# Altium schematic symbol library 3.2 - NXP Cortex-M4系列单片机.SchLib: 3 symbols
Pins are listed as number, name and electrical type; pins without a type are passive.

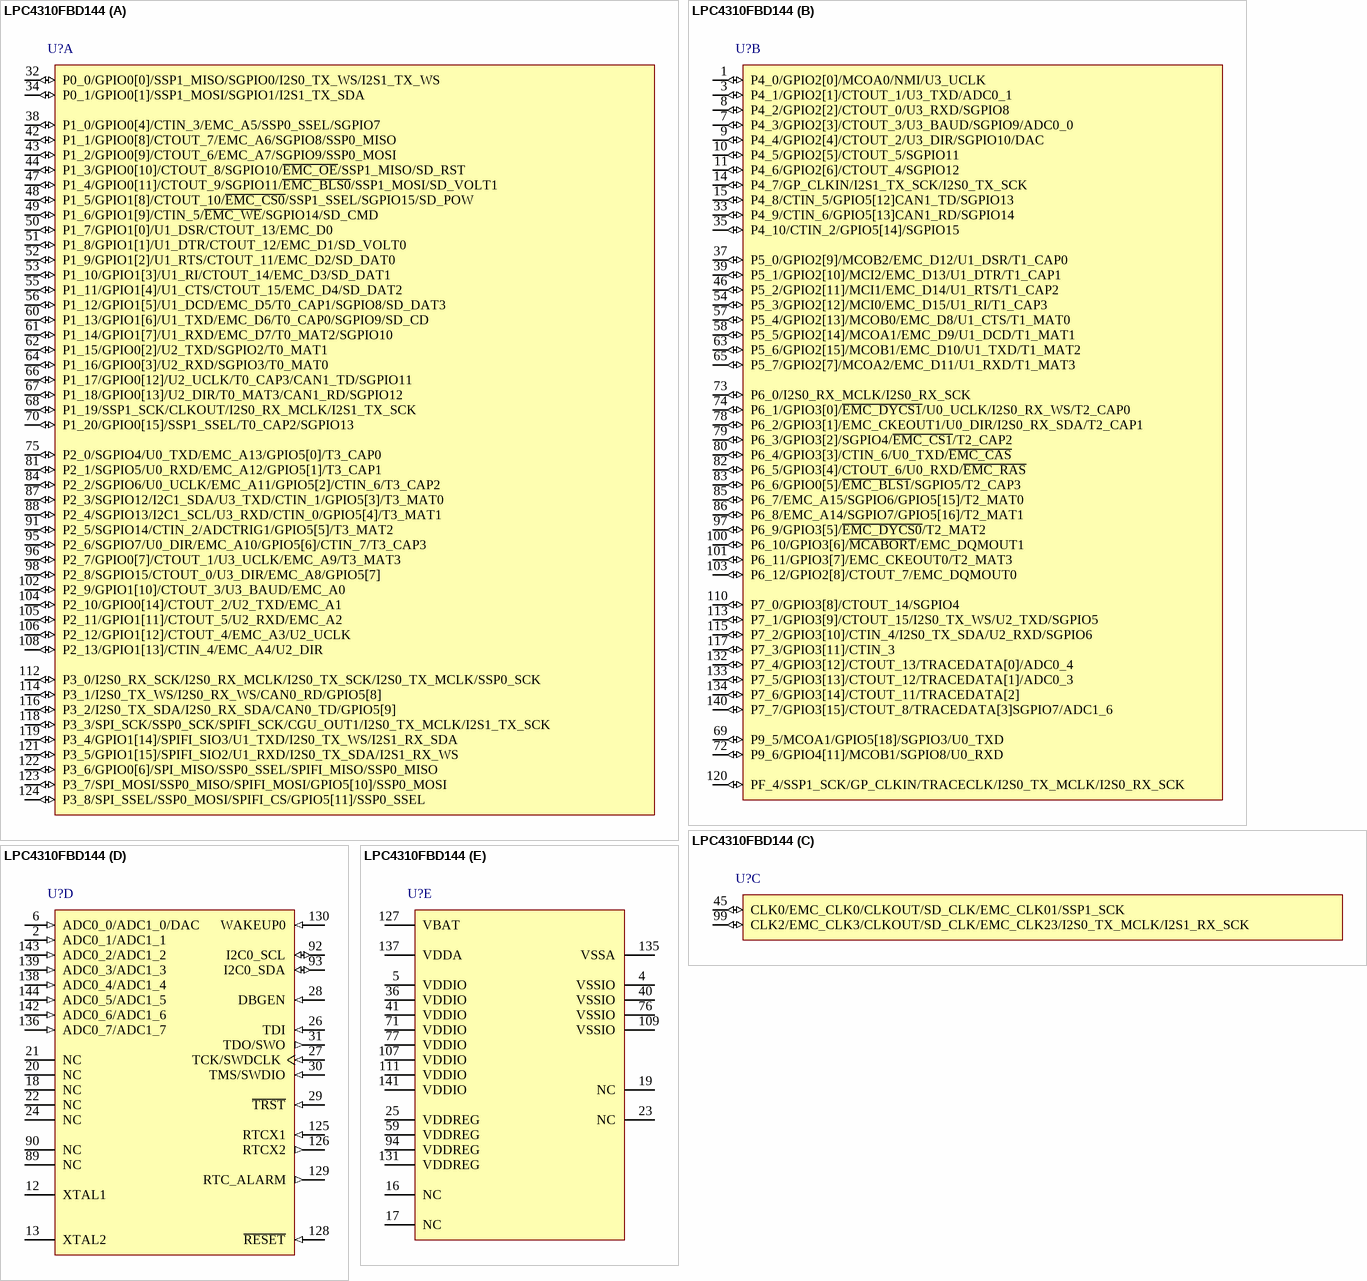
[diagram p0: symbol LPC4310FBD144]

## LPC4310FBD144
designator U?
32-bit ARM Cortex-M4 MCU, 168 kB SRAM, CAN, AES, SPIFI, SGPIO, SCT, 144-Pin LQFP; 封装库来自淘宝卖家 ID：黄晶宝石: 其他店铺购入均为盗版封装库; 联系卖家 免费查找封装: 唯一出售店铺网址https://shop463601444.taobao.com
footprint LQFP144_M (封装库来自淘宝 ID：黄晶宝石 Thin QFP, 144-Leads, Body 20x20mm, Pitch 0.5mm, IPC Low Density)
part A pins: 32 P0_0/GPIO0[0]/SSP1_MISO/SGPIO0/I2S0_TX_WS/I2S1_TX_WS (io), 34 P0_1/GPIO0[1]/SSP1_MOSI/SGPIO1/I2S1_TX_SDA (io), 38 P1_0/GPIO0[4]/CTIN_3/EMC_A5/SSP0_SSEL/SGPIO7 (io), 42 P1_1/GPIO0[8]/CTOUT_7/EMC_A6/SGPIO8/SSP0_MISO (io), 43 P1_2/GPIO0[9]/CTOUT_6/EMC_A7/SGPIO9/SSP0_MOSI (io), 44 P1_3/GPIO0[10]/CTOUT_8/SGPIO10/~{EMC_OE}/SSP1_MISO/SD_RST (io), 47 P1_4/GPIO0[11]/CTOUT_9/SGPIO11/~{EMC_BLS0}/SSP1_MOSI/SD_VOLT1 (io), 48 P1_5/GPIO1[8]/CTOUT_10/~{EMC_CS0}/SSP1_SSEL/SGPIO15/SD_POW (io), 49 P1_6/GPIO1[9]/CTIN_5/~{EMC_WE}/SGPIO14/SD_CMD (io), 50 P1_7/GPIO1[0]/U1_DSR/CTOUT_13/EMC_D0 (io), 51 P1_8/GPIO1[1]/U1_DTR/CTOUT_12/EMC_D1/SD_VOLT0 (io), 52 P1_9/GPIO1[2]/U1_RTS/CTOUT_11/EMC_D2/SD_DAT0 (io), 53 P1_10/GPIO1[3]/U1_RI/CTOUT_14/EMC_D3/SD_DAT1 (io), 55 P1_11/GPIO1[4]/U1_CTS/CTOUT_15/EMC_D4/SD_DAT2 (io), 56 P1_12/GPIO1[5]/U1_DCD/EMC_D5/T0_CAP1/SGPIO8/SD_DAT3 (io), 60 P1_13/GPIO1[6]/U1_TXD/EMC_D6/T0_CAP0/SGPIO9/SD_CD (io), 61 P1_14/GPIO1[7]/U1_RXD/EMC_D7/T0_MAT2/SGPIO10 (io), 62 P1_15/GPIO0[2]/U2_TXD/SGPIO2/T0_MAT1 (io), 64 P1_16/GPIO0[3]/U2_RXD/SGPIO3/T0_MAT0 (io), 66 P1_17/GPIO0[12]/U2_UCLK/T0_CAP3/CAN1_TD/SGPIO11 (io), 67 P1_18/GPIO0[13]/U2_DIR/T0_MAT3/CAN1_RD/SGPIO12 (io), 68 P1_19/SSP1_SCK/CLKOUT/I2S0_RX_MCLK/I2S1_TX_SCK (io), 70 P1_20/GPIO0[15]/SSP1_SSEL/T0_CAP2/SGPIO13 (io), 75 P2_0/SGPIO4/U0_TXD/EMC_A13/GPIO5[0]/T3_CAP0 (io), 81 P2_1/SGPIO5/U0_RXD/EMC_A12/GPIO5[1]/T3_CAP1 (io), 84 P2_2/SGPIO6/U0_UCLK/EMC_A11/GPIO5[2]/CTIN_6/T3_CAP2 (io), 87 P2_3/SGPIO12/I2C1_SDA/U3_TXD/CTIN_1/GPIO5[3]/T3_MAT0 (io), 88 P2_4/SGPIO13/I2C1_SCL/U3_RXD/CTIN_0/GPIO5[4]/T3_MAT1 (io), 91 P2_5/SGPIO14/CTIN_2/ADCTRIG1/GPIO5[5]/T3_MAT2 (io), 95 P2_6/SGPIO7/U0_DIR/EMC_A10/GPIO5[6]/CTIN_7/T3_CAP3 (io), 96 P2_7/GPIO0[7]/CTOUT_1/U3_UCLK/EMC_A9/T3_MAT3 (io), 98 P2_8/SGPIO15/CTOUT_0/U3_DIR/EMC_A8/GPIO5[7] (io), 102 P2_9/GPIO1[10]/CTOUT_3/U3_BAUD/EMC_A0 (io), 104 P2_10/GPIO0[14]/CTOUT_2/U2_TXD/EMC_A1 (io), 105 P2_11/GPIO1[11]/CTOUT_5/U2_RXD/EMC_A2 (io), 106 P2_12/GPIO1[12]/CTOUT_4/EMC_A3/U2_UCLK (io), 108 P2_13/GPIO1[13]/CTIN_4/EMC_A4/U2_DIR (io), 112 P3_0/I2S0_RX_SCK/I2S0_RX_MCLK/I2S0_TX_SCK/I2S0_TX_MCLK/SSP0_SCK (io), 114 P3_1/I2S0_TX_WS/I2S0_RX_WS/CAN0_RD/GPIO5[8] (io), 116 P3_2/I2S0_TX_SDA/I2S0_RX_SDA/CAN0_TD/GPIO5[9] (io), 118 P3_3/SPI_SCK/SSP0_SCK/SPIFI_SCK/CGU_OUT1/I2S0_TX_MCLK/I2S1_TX_SCK (io), 119 P3_4/GPIO1[14]/SPIFI_SIO3/U1_TXD/I2S0_TX_WS/I2S1_RX_SDA (io), 121 P3_5/GPIO1[15]/SPIFI_SIO2/U1_RXD/I2S0_TX_SDA/I2S1_RX_WS (io), 122 P3_6/GPIO0[6]/SPI_MISO/SSP0_SSEL/SPIFI_MISO/SSP0_MISO (io), 123 P3_7/SPI_MOSI/SSP0_MISO/SPIFI_MOSI/GPIO5[10]/SSP0_MOSI (io), 124 P3_8/SPI_SSEL/SSP0_MOSI/SPIFI_CS/GPIO5[11]/SSP0_SSEL (io)
part B pins: 1 P4_0/GPIO2[0]/MCOA0/NMI/U3_UCLK (io), 3 P4_1/GPIO2[1]/CTOUT_1/U3_TXD/ADC0_1 (io), 7 P4_3/GPIO2[3]/CTOUT_3/U3_BAUD/SGPIO9/ADC0_0 (io), 8 P4_2/GPIO2[2]/CTOUT_0/U3_RXD/SGPIO8 (io), 9 P4_4/GPIO2[4]/CTOUT_2/U3_DIR/SGPIO10/DAC (io), 10 P4_5/GPIO2[5]/CTOUT_5/SGPIO11 (io), 11 P4_6/GPIO2[6]/CTOUT_4/SGPIO12 (io), 14 P4_7/GP_CLKIN/I2S1_TX_SCK/I2S0_TX_SCK (io), 15 P4_8/CTIN_5/GPIO5[12]CAN1_TD/SGPIO13 (io), 33 P4_9/CTIN_6/GPIO5[13]CAN1_RD/SGPIO14 (io), 35 P4_10/CTIN_2/GPIO5[14]/SGPIO15 (io), 37 P5_0/GPIO2[9]/MCOB2/EMC_D12/U1_DSR/T1_CAP0 (io), 39 P5_1/GPIO2[10]/MCI2/EMC_D13/U1_DTR/T1_CAP1 (io), 46 P5_2/GPIO2[11]/MCI1/EMC_D14/U1_RTS/T1_CAP2 (io), 54 P5_3/GPIO2[12]/MCI0/EMC_D15/U1_RI/T1_CAP3 (io), 57 P5_4/GPIO2[13]/MCOB0/EMC_D8/U1_CTS/T1_MAT0 (io), 58 P5_5/GPIO2[14]/MCOA1/EMC_D9/U1_DCD/T1_MAT1 (io), 63 P5_6/GPIO2[15]/MCOB1/EMC_D10/U1_TXD/T1_MAT2 (io), 65 P5_7/GPIO2[7]/MCOA2/EMC_D11/U1_RXD/T1_MAT3 (io), 69 P9_5/MCOA1/GPIO5[18]/SGPIO3/U0_TXD (io), 72 P9_6/GPIO4[11]/MCOB1/SGPIO8/U0_RXD (io), 73 P6_0/I2S0_RX_MCLK/I2S0_RX_SCK (io), 74 P6_1/GPIO3[0]/~{EMC_DYCS1}/U0_UCLK/I2S0_RX_WS/T2_CAP0 (io), 78 P6_2/GPIO3[1]/EMC_CKEOUT1/U0_DIR/I2S0_RX_SDA/T2_CAP1 (io), 79 P6_3/GPIO3[2]/SGPIO4/~{EMC_CS1}/T2_CAP2 (io), 80 P6_4/GPIO3[3]/CTIN_6/U0_TXD/~{EMC_CAS} (io), 82 P6_5/GPIO3[4]/CTOUT_6/U0_RXD/~{EMC_RAS} (io), 83 P6_6/GPIO0[5]/~{EMC_BLS1}/SGPIO5/T2_CAP3 (io), 85 P6_7/EMC_A15/SGPIO6/GPIO5[15]/T2_MAT0 (io), 86 P6_8/EMC_A14/SGPIO7/GPIO5[16]/T2_MAT1 (io), 97 P6_9/GPIO3[5]/~{EMC_DYCS0}/T2_MAT2 (io), 100 P6_10/GPIO3[6]/~{MCABORT}/EMC_DQMOUT1 (io), 101 P6_11/GPIO3[7]/EMC_CKEOUT0/T2_MAT3 (io), 103 P6_12/GPIO2[8]/CTOUT_7/EMC_DQMOUT0 (io), 110 P7_0/GPIO3[8]/CTOUT_14/SGPIO4 (io), 113 P7_1/GPIO3[9]/CTOUT_15/I2S0_TX_WS/U2_TXD/SGPIO5 (io), 115 P7_2/GPIO3[10]/CTIN_4/I2S0_TX_SDA/U2_RXD/SGPIO6 (io), 117 P7_3/GPIO3[11]/CTIN_3 (io), 120 PF_4/SSP1_SCK/GP_CLKIN/TRACECLK/I2S0_TX_MCLK/I2S0_RX_SCK (io), 132 P7_4/GPIO3[12]/CTOUT_13/TRACEDATA[0]/ADC0_4 (io), 133 P7_5/GPIO3[13]/CTOUT_12/TRACEDATA[1]/ADC0_3 (io), 134 P7_6/GPIO3[14]/CTOUT_11/TRACEDATA[2] (io), 140 P7_7/GPIO3[15]/CTOUT_8/TRACEDATA[3]SGPIO7/ADC1_6 (io)
part C pins: 45 CLK0/EMC_CLK0/CLKOUT/SD_CLK/EMC_CLK01/SSP1_SCK (io), 99 CLK2/EMC_CLK3/CLKOUT/SD_CLK/EMC_CLK23/I2S0_TX_MCLK/I2S1_RX_SCK (io)
part D pins: 2 ADC0_1/ADC1_1 (in), 6 ADC0_0/ADC1_0/DAC (in), 12 XTAL1, 13 XTAL2, 18 NC, 20 NC, 21 NC, 22 NC, 24 NC, 26 TDI (in), 27 TCK/SWDCLK (in), 28 DBGEN (in), 29 ~{TRST} (in), 30 TMS/SWDIO (in), 31 TDO/SWO (out), 89 NC, 90 NC, 92 I2C0_SCL (io), 93 I2C0_SDA (io), 125 RTCX1 (in), 126 RTCX2 (out), 128 ~{RESET} (in), 129 RTC_ALARM (out), 130 WAKEUP0 (in), 136 ADC0_7/ADC1_7 (in), 138 ADC0_4/ADC1_4 (in), 139 ADC0_3/ADC1_3 (in), 142 ADC0_6/ADC1_6 (in), 143 ADC0_2/ADC1_2 (in), 144 ADC0_5/ADC1_5 (in)
part E pins: 4 VSSIO (power), 5 VDDIO (power), 16 NC, 17 NC, 19 NC, 23 NC, 25 VDDREG (power), 36 VDDIO (power), 40 VSSIO (power), 41 VDDIO (power), 59 VDDREG (power), 71 VDDIO (power), 76 VSSIO (power), 77 VDDIO (power), 94 VDDREG (power), 107 VDDIO (power), 109 VSSIO (power), 111 VDDIO (power), 127 VBAT (power), 131 VDDREG (power), 135 VSSA (power), 137 VDDA (power), 141 VDDIO (power)

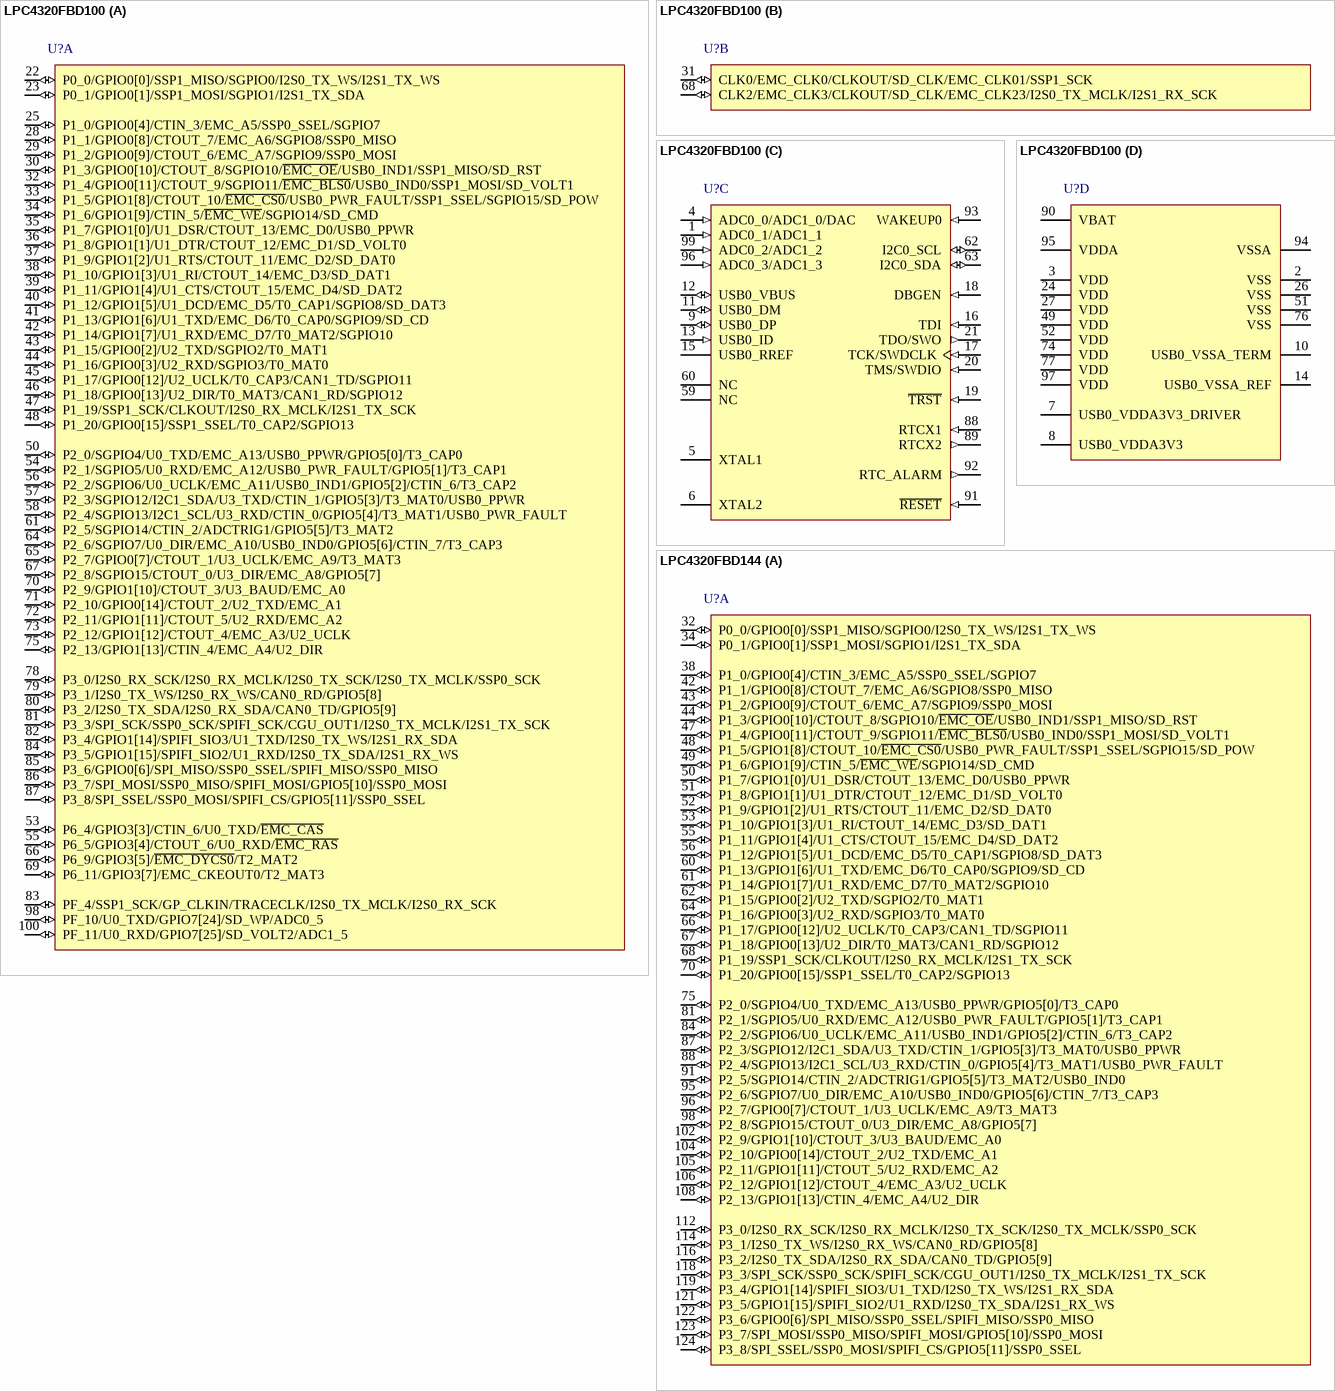
[diagram p1: symbols LPC4320FBD100 to LPC4320FBD144]

## LPC4320FBD100
designator U?
32-bit ARM Cortex-M4 MCU, 200 kB SRAM, HS USB with on-chip PHY, CAN, AES, SPIFI, SGPIO, SCT, 100-Pin LQFP; 封装库来自淘宝卖家 ID：黄晶宝石: 其他店铺购入均为盗版封装库; 联系卖家 免费查找封装: 唯一出售店铺网址https://shop463601444.taobao.com
footprint LQFP100_M (封装库来自淘宝 ID：黄晶宝石 Thin QFP, 100-Leads, Body 14x14mm, Pitch 0.5mm, IPC Low Density)
part A pins: 22 P0_0/GPIO0[0]/SSP1_MISO/SGPIO0/I2S0_TX_WS/I2S1_TX_WS (io), 23 P0_1/GPIO0[1]/SSP1_MOSI/SGPIO1/I2S1_TX_SDA (io), 25 P1_0/GPIO0[4]/CTIN_3/EMC_A5/SSP0_SSEL/SGPIO7 (io), 28 P1_1/GPIO0[8]/CTOUT_7/EMC_A6/SGPIO8/SSP0_MISO (io), 29 P1_2/GPIO0[9]/CTOUT_6/EMC_A7/SGPIO9/SSP0_MOSI (io), 30 P1_3/GPIO0[10]/CTOUT_8/SGPIO10/~{EMC_OE}/USB0_IND1/SSP1_MISO/SD_RST (io), 32 P1_4/GPIO0[11]/CTOUT_9/SGPIO11/~{EMC_BLS0}/USB0_IND0/SSP1_MOSI/SD_VOLT1 (io), 33 P1_5/GPIO1[8]/CTOUT_10/~{EMC_CS0}/USB0_PWR_FAULT/SSP1_SSEL/SGPIO15/SD_POW (io), 34 P1_6/GPIO1[9]/CTIN_5/~{EMC_WE}/SGPIO14/SD_CMD (io), 35 P1_7/GPIO1[0]/U1_DSR/CTOUT_13/EMC_D0/USB0_PPWR (io), 36 P1_8/GPIO1[1]/U1_DTR/CTOUT_12/EMC_D1/SD_VOLT0 (io), 37 P1_9/GPIO1[2]/U1_RTS/CTOUT_11/EMC_D2/SD_DAT0 (io), 38 P1_10/GPIO1[3]/U1_RI/CTOUT_14/EMC_D3/SD_DAT1 (io), 39 P1_11/GPIO1[4]/U1_CTS/CTOUT_15/EMC_D4/SD_DAT2 (io), 40 P1_12/GPIO1[5]/U1_DCD/EMC_D5/T0_CAP1/SGPIO8/SD_DAT3 (io), 41 P1_13/GPIO1[6]/U1_TXD/EMC_D6/T0_CAP0/SGPIO9/SD_CD (io), 42 P1_14/GPIO1[7]/U1_RXD/EMC_D7/T0_MAT2/SGPIO10 (io), 43 P1_15/GPIO0[2]/U2_TXD/SGPIO2/T0_MAT1 (io), 44 P1_16/GPIO0[3]/U2_RXD/SGPIO3/T0_MAT0 (io), 45 P1_17/GPIO0[12]/U2_UCLK/T0_CAP3/CAN1_TD/SGPIO11 (io), 46 P1_18/GPIO0[13]/U2_DIR/T0_MAT3/CAN1_RD/SGPIO12 (io), 47 P1_19/SSP1_SCK/CLKOUT/I2S0_RX_MCLK/I2S1_TX_SCK (io), 48 P1_20/GPIO0[15]/SSP1_SSEL/T0_CAP2/SGPIO13 (io), 50 P2_0/SGPIO4/U0_TXD/EMC_A13/USB0_PPWR/GPIO5[0]/T3_CAP0 (io), 53 P6_4/GPIO3[3]/CTIN_6/U0_TXD/~{EMC_CAS} (io), 54 P2_1/SGPIO5/U0_RXD/EMC_A12/USB0_PWR_FAULT/GPIO5[1]/T3_CAP1 (io), 55 P6_5/GPIO3[4]/CTOUT_6/U0_RXD/~{EMC_RAS} (io), 56 P2_2/SGPIO6/U0_UCLK/EMC_A11/USB0_IND1/GPIO5[2]/CTIN_6/T3_CAP2 (io), 57 P2_3/SGPIO12/I2C1_SDA/U3_TXD/CTIN_1/GPIO5[3]/T3_MAT0/USB0_PPWR (io), 58 P2_4/SGPIO13/I2C1_SCL/U3_RXD/CTIN_0/GPIO5[4]/T3_MAT1/USB0_PWR_FAULT (io), 61 P2_5/SGPIO14/CTIN_2/ADCTRIG1/GPIO5[5]/T3_MAT2 (io), 64 P2_6/SGPIO7/U0_DIR/EMC_A10/USB0_IND0/GPIO5[6]/CTIN_7/T3_CAP3 (io), 65 P2_7/GPIO0[7]/CTOUT_1/U3_UCLK/EMC_A9/T3_MAT3 (io), 66 P6_9/GPIO3[5]/~{EMC_DYCS0}/T2_MAT2 (io), 67 P2_8/SGPIO15/CTOUT_0/U3_DIR/EMC_A8/GPIO5[7] (io), 69 P6_11/GPIO3[7]/EMC_CKEOUT0/T2_MAT3 (io), 70 P2_9/GPIO1[10]/CTOUT_3/U3_BAUD/EMC_A0 (io), 71 P2_10/GPIO0[14]/CTOUT_2/U2_TXD/EMC_A1 (io), 72 P2_11/GPIO1[11]/CTOUT_5/U2_RXD/EMC_A2 (io), 73 P2_12/GPIO1[12]/CTOUT_4/EMC_A3/U2_UCLK (io), 75 P2_13/GPIO1[13]/CTIN_4/EMC_A4/U2_DIR (io), 78 P3_0/I2S0_RX_SCK/I2S0_RX_MCLK/I2S0_TX_SCK/I2S0_TX_MCLK/SSP0_SCK (io), 79 P3_1/I2S0_TX_WS/I2S0_RX_WS/CAN0_RD/GPIO5[8] (io), 80 P3_2/I2S0_TX_SDA/I2S0_RX_SDA/CAN0_TD/GPIO5[9] (io), 81 P3_3/SPI_SCK/SSP0_SCK/SPIFI_SCK/CGU_OUT1/I2S0_TX_MCLK/I2S1_TX_SCK (io), 82 P3_4/GPIO1[14]/SPIFI_SIO3/U1_TXD/I2S0_TX_WS/I2S1_RX_SDA (io), 83 PF_4/SSP1_SCK/GP_CLKIN/TRACECLK/I2S0_TX_MCLK/I2S0_RX_SCK (io), 84 P3_5/GPIO1[15]/SPIFI_SIO2/U1_RXD/I2S0_TX_SDA/I2S1_RX_WS (io), 85 P3_6/GPIO0[6]/SPI_MISO/SSP0_SSEL/SPIFI_MISO/SSP0_MISO (io), 86 P3_7/SPI_MOSI/SSP0_MISO/SPIFI_MOSI/GPIO5[10]/SSP0_MOSI (io), 87 P3_8/SPI_SSEL/SSP0_MOSI/SPIFI_CS/GPIO5[11]/SSP0_SSEL (io), 98 PF_10/U0_TXD/GPIO7[24]/SD_WP/ADC0_5 (io), 100 PF_11/U0_RXD/GPIO7[25]/SD_VOLT2/ADC1_5 (io)
part B pins: 31 CLK0/EMC_CLK0/CLKOUT/SD_CLK/EMC_CLK01/SSP1_SCK (io), 68 CLK2/EMC_CLK3/CLKOUT/SD_CLK/EMC_CLK23/I2S0_TX_MCLK/I2S1_RX_SCK (io)
part C pins: 1 ADC0_1/ADC1_1 (in), 4 ADC0_0/ADC1_0/DAC (in), 5 XTAL1, 6 XTAL2, 9 USB0_DP (io), 11 USB0_DM (io), 12 USB0_VBUS (io), 13 USB0_ID (in), 15 USB0_RREF, 16 TDI (in), 17 TCK/SWDCLK (in), 18 DBGEN (in), 19 ~{TRST} (in), 20 TMS/SWDIO (in), 21 TDO/SWO (out), 59 NC, 60 NC, 62 I2C0_SCL (io), 63 I2C0_SDA (io), 88 RTCX1 (in), 89 RTCX2 (out), 91 ~{RESET} (in), 92 RTC_ALARM (out), 93 WAKEUP0 (in), 96 ADC0_3/ADC1_3 (in), 99 ADC0_2/ADC1_2 (in)
part D pins: 2 VSS (power), 3 VDD (power), 7 USB0_VDDA3V3_DRIVER (power), 8 USB0_VDDA3V3 (power), 10 USB0_VSSA_TERM (power), 14 USB0_VSSA_REF (power), 24 VDD (power), 26 VSS (power), 27 VDD (power), 49 VDD (power), 51 VSS (power), 52 VDD (power), 74 VDD (power), 76 VSS (power), 77 VDD (power), 90 VBAT (power), 94 VSSA (power), 95 VDDA (power), 97 VDD (power)

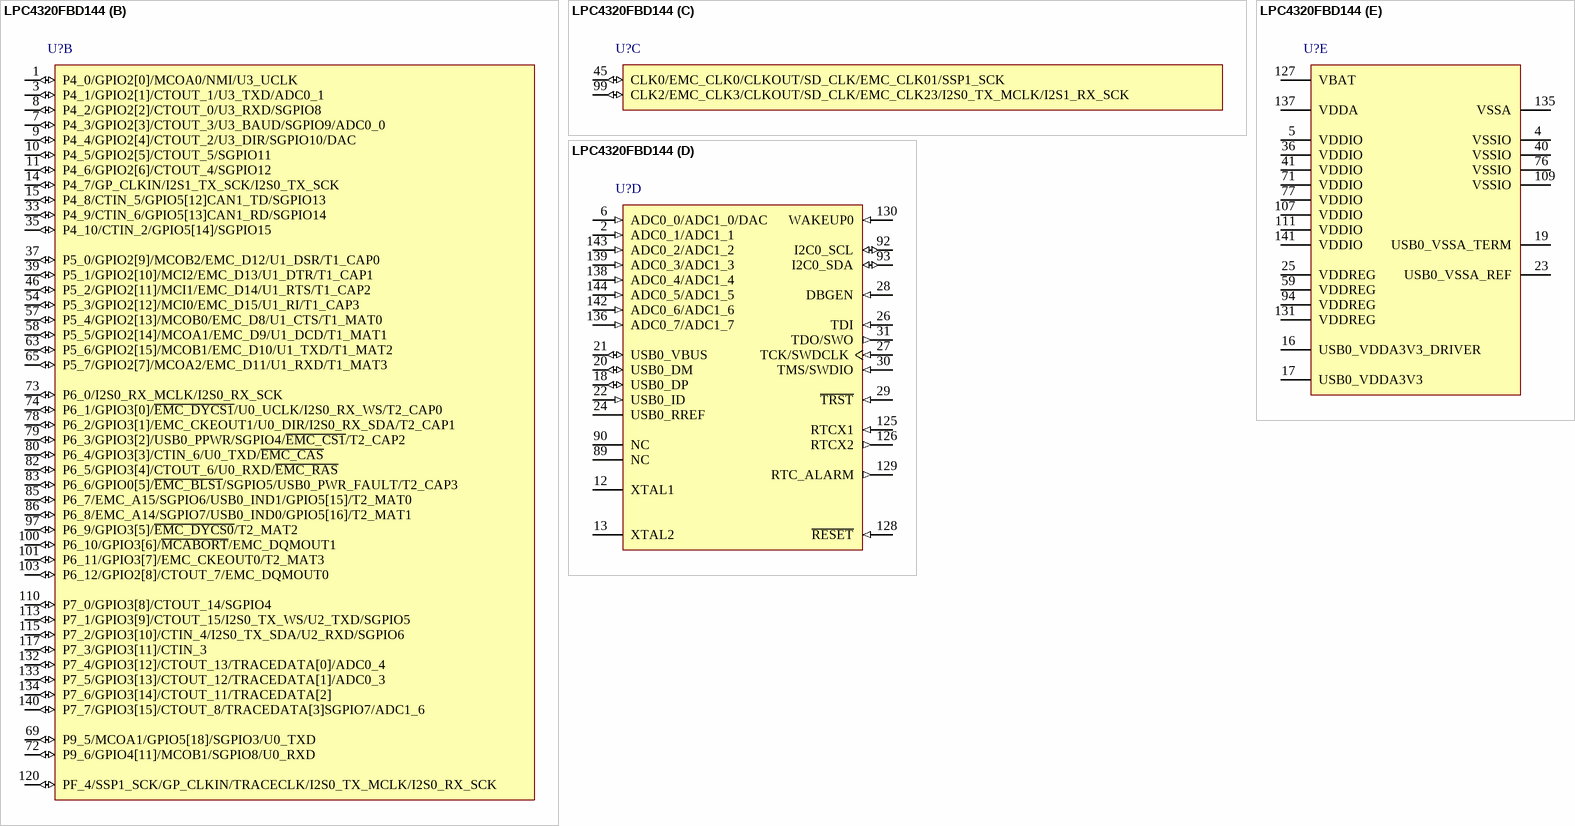
[diagram p2: symbol LPC4320FBD144]

## LPC4320FBD144
designator U?
32-bit ARM Cortex-M4 MCU, 200 kB SRAM, HS USB with on-chip PHY, CAN, AES, SPIFI, SGPIO, SCT, 144-Pin LQFP; 封装库来自淘宝卖家 ID：黄晶宝石: 其他店铺购入均为盗版封装库; 联系卖家 免费查找封装: 唯一出售店铺网址https://shop463601444.taobao.com
footprint LQFP144_M (封装库来自淘宝 ID：黄晶宝石 Thin QFP, 144-Leads, Body 20x20mm, Pitch 0.5mm, IPC Low Density)
part A pins: 32 P0_0/GPIO0[0]/SSP1_MISO/SGPIO0/I2S0_TX_WS/I2S1_TX_WS (io), 34 P0_1/GPIO0[1]/SSP1_MOSI/SGPIO1/I2S1_TX_SDA (io), 38 P1_0/GPIO0[4]/CTIN_3/EMC_A5/SSP0_SSEL/SGPIO7 (io), 42 P1_1/GPIO0[8]/CTOUT_7/EMC_A6/SGPIO8/SSP0_MISO (io), 43 P1_2/GPIO0[9]/CTOUT_6/EMC_A7/SGPIO9/SSP0_MOSI (io), 44 P1_3/GPIO0[10]/CTOUT_8/SGPIO10/~{EMC_OE}/USB0_IND1/SSP1_MISO/SD_RST (io), 47 P1_4/GPIO0[11]/CTOUT_9/SGPIO11/~{EMC_BLS0}/USB0_IND0/SSP1_MOSI/SD_VOLT1 (io), 48 P1_5/GPIO1[8]/CTOUT_10/~{EMC_CS0}/USB0_PWR_FAULT/SSP1_SSEL/SGPIO15/SD_POW (io), 49 P1_6/GPIO1[9]/CTIN_5/~{EMC_WE}/SGPIO14/SD_CMD (io), 50 P1_7/GPIO1[0]/U1_DSR/CTOUT_13/EMC_D0/USB0_PPWR (io), 51 P1_8/GPIO1[1]/U1_DTR/CTOUT_12/EMC_D1/SD_VOLT0 (io), 52 P1_9/GPIO1[2]/U1_RTS/CTOUT_11/EMC_D2/SD_DAT0 (io), 53 P1_10/GPIO1[3]/U1_RI/CTOUT_14/EMC_D3/SD_DAT1 (io), 55 P1_11/GPIO1[4]/U1_CTS/CTOUT_15/EMC_D4/SD_DAT2 (io), 56 P1_12/GPIO1[5]/U1_DCD/EMC_D5/T0_CAP1/SGPIO8/SD_DAT3 (io), 60 P1_13/GPIO1[6]/U1_TXD/EMC_D6/T0_CAP0/SGPIO9/SD_CD (io), 61 P1_14/GPIO1[7]/U1_RXD/EMC_D7/T0_MAT2/SGPIO10 (io), 62 P1_15/GPIO0[2]/U2_TXD/SGPIO2/T0_MAT1 (io), 64 P1_16/GPIO0[3]/U2_RXD/SGPIO3/T0_MAT0 (io), 66 P1_17/GPIO0[12]/U2_UCLK/T0_CAP3/CAN1_TD/SGPIO11 (io), 67 P1_18/GPIO0[13]/U2_DIR/T0_MAT3/CAN1_RD/SGPIO12 (io), 68 P1_19/SSP1_SCK/CLKOUT/I2S0_RX_MCLK/I2S1_TX_SCK (io), 70 P1_20/GPIO0[15]/SSP1_SSEL/T0_CAP2/SGPIO13 (io), 75 P2_0/SGPIO4/U0_TXD/EMC_A13/USB0_PPWR/GPIO5[0]/T3_CAP0 (io), 81 P2_1/SGPIO5/U0_RXD/EMC_A12/USB0_PWR_FAULT/GPIO5[1]/T3_CAP1 (io), 84 P2_2/SGPIO6/U0_UCLK/EMC_A11/USB0_IND1/GPIO5[2]/CTIN_6/T3_CAP2 (io), 87 P2_3/SGPIO12/I2C1_SDA/U3_TXD/CTIN_1/GPIO5[3]/T3_MAT0/USB0_PPWR (io), 88 P2_4/SGPIO13/I2C1_SCL/U3_RXD/CTIN_0/GPIO5[4]/T3_MAT1/USB0_PWR_FAULT (io), 91 P2_5/SGPIO14/CTIN_2/ADCTRIG1/GPIO5[5]/T3_MAT2/USB0_IND0 (io), 95 P2_6/SGPIO7/U0_DIR/EMC_A10/USB0_IND0/GPIO5[6]/CTIN_7/T3_CAP3 (io), 96 P2_7/GPIO0[7]/CTOUT_1/U3_UCLK/EMC_A9/T3_MAT3 (io), 98 P2_8/SGPIO15/CTOUT_0/U3_DIR/EMC_A8/GPIO5[7] (io), 102 P2_9/GPIO1[10]/CTOUT_3/U3_BAUD/EMC_A0 (io), 104 P2_10/GPIO0[14]/CTOUT_2/U2_TXD/EMC_A1 (io), 105 P2_11/GPIO1[11]/CTOUT_5/U2_RXD/EMC_A2 (io), 106 P2_12/GPIO1[12]/CTOUT_4/EMC_A3/U2_UCLK (io), 108 P2_13/GPIO1[13]/CTIN_4/EMC_A4/U2_DIR (io), 112 P3_0/I2S0_RX_SCK/I2S0_RX_MCLK/I2S0_TX_SCK/I2S0_TX_MCLK/SSP0_SCK (io), 114 P3_1/I2S0_TX_WS/I2S0_RX_WS/CAN0_RD/GPIO5[8] (io), 116 P3_2/I2S0_TX_SDA/I2S0_RX_SDA/CAN0_TD/GPIO5[9] (io), 118 P3_3/SPI_SCK/SSP0_SCK/SPIFI_SCK/CGU_OUT1/I2S0_TX_MCLK/I2S1_TX_SCK (io), 119 P3_4/GPIO1[14]/SPIFI_SIO3/U1_TXD/I2S0_TX_WS/I2S1_RX_SDA (io), 121 P3_5/GPIO1[15]/SPIFI_SIO2/U1_RXD/I2S0_TX_SDA/I2S1_RX_WS (io), 122 P3_6/GPIO0[6]/SPI_MISO/SSP0_SSEL/SPIFI_MISO/SSP0_MISO (io), 123 P3_7/SPI_MOSI/SSP0_MISO/SPIFI_MOSI/GPIO5[10]/SSP0_MOSI (io), 124 P3_8/SPI_SSEL/SSP0_MOSI/SPIFI_CS/GPIO5[11]/SSP0_SSEL (io)
part B pins: 1 P4_0/GPIO2[0]/MCOA0/NMI/U3_UCLK (io), 3 P4_1/GPIO2[1]/CTOUT_1/U3_TXD/ADC0_1 (io), 7 P4_3/GPIO2[3]/CTOUT_3/U3_BAUD/SGPIO9/ADC0_0 (io), 8 P4_2/GPIO2[2]/CTOUT_0/U3_RXD/SGPIO8 (io), 9 P4_4/GPIO2[4]/CTOUT_2/U3_DIR/SGPIO10/DAC (io), 10 P4_5/GPIO2[5]/CTOUT_5/SGPIO11 (io), 11 P4_6/GPIO2[6]/CTOUT_4/SGPIO12 (io), 14 P4_7/GP_CLKIN/I2S1_TX_SCK/I2S0_TX_SCK (io), 15 P4_8/CTIN_5/GPIO5[12]CAN1_TD/SGPIO13 (io), 33 P4_9/CTIN_6/GPIO5[13]CAN1_RD/SGPIO14 (io), 35 P4_10/CTIN_2/GPIO5[14]/SGPIO15 (io), 37 P5_0/GPIO2[9]/MCOB2/EMC_D12/U1_DSR/T1_CAP0 (io), 39 P5_1/GPIO2[10]/MCI2/EMC_D13/U1_DTR/T1_CAP1 (io), 46 P5_2/GPIO2[11]/MCI1/EMC_D14/U1_RTS/T1_CAP2 (io), 54 P5_3/GPIO2[12]/MCI0/EMC_D15/U1_RI/T1_CAP3 (io), 57 P5_4/GPIO2[13]/MCOB0/EMC_D8/U1_CTS/T1_MAT0 (io), 58 P5_5/GPIO2[14]/MCOA1/EMC_D9/U1_DCD/T1_MAT1 (io), 63 P5_6/GPIO2[15]/MCOB1/EMC_D10/U1_TXD/T1_MAT2 (io), 65 P5_7/GPIO2[7]/MCOA2/EMC_D11/U1_RXD/T1_MAT3 (io), 69 P9_5/MCOA1/GPIO5[18]/SGPIO3/U0_TXD (io), 72 P9_6/GPIO4[11]/MCOB1/SGPIO8/U0_RXD (io), 73 P6_0/I2S0_RX_MCLK/I2S0_RX_SCK (io), 74 P6_1/GPIO3[0]/~{EMC_DYCS1}/U0_UCLK/I2S0_RX_WS/T2_CAP0 (io), 78 P6_2/GPIO3[1]/EMC_CKEOUT1/U0_DIR/I2S0_RX_SDA/T2_CAP1 (io), 79 P6_3/GPIO3[2]/USB0_PPWR/SGPIO4/~{EMC_CS1}/T2_CAP2 (io), 80 P6_4/GPIO3[3]/CTIN_6/U0_TXD/~{EMC_CAS} (io), 82 P6_5/GPIO3[4]/CTOUT_6/U0_RXD/~{EMC_RAS} (io), 83 P6_6/GPIO0[5]/~{EMC_BLS1}/SGPIO5/USB0_PWR_FAULT/T2_CAP3 (io), 85 P6_7/EMC_A15/SGPIO6/USB0_IND1/GPIO5[15]/T2_MAT0 (io), 86 P6_8/EMC_A14/SGPIO7/USB0_IND0/GPIO5[16]/T2_MAT1 (io), 97 P6_9/GPIO3[5]/~{EMC_DYCS0}/T2_MAT2 (io), 100 P6_10/GPIO3[6]/~{MCABORT}/EMC_DQMOUT1 (io), 101 P6_11/GPIO3[7]/EMC_CKEOUT0/T2_MAT3 (io), 103 P6_12/GPIO2[8]/CTOUT_7/EMC_DQMOUT0 (io), 110 P7_0/GPIO3[8]/CTOUT_14/SGPIO4 (io), 113 P7_1/GPIO3[9]/CTOUT_15/I2S0_TX_WS/U2_TXD/SGPIO5 (io), 115 P7_2/GPIO3[10]/CTIN_4/I2S0_TX_SDA/U2_RXD/SGPIO6 (io), 117 P7_3/GPIO3[11]/CTIN_3 (io), 120 PF_4/SSP1_SCK/GP_CLKIN/TRACECLK/I2S0_TX_MCLK/I2S0_RX_SCK (io), 132 P7_4/GPIO3[12]/CTOUT_13/TRACEDATA[0]/ADC0_4 (io), 133 P7_5/GPIO3[13]/CTOUT_12/TRACEDATA[1]/ADC0_3 (io), 134 P7_6/GPIO3[14]/CTOUT_11/TRACEDATA[2] (io), 140 P7_7/GPIO3[15]/CTOUT_8/TRACEDATA[3]SGPIO7/ADC1_6 (io)
part C pins: 45 CLK0/EMC_CLK0/CLKOUT/SD_CLK/EMC_CLK01/SSP1_SCK (io), 99 CLK2/EMC_CLK3/CLKOUT/SD_CLK/EMC_CLK23/I2S0_TX_MCLK/I2S1_RX_SCK (io)
part D pins: 2 ADC0_1/ADC1_1 (in), 6 ADC0_0/ADC1_0/DAC (in), 12 XTAL1, 13 XTAL2, 18 USB0_DP (io), 20 USB0_DM (io), 21 USB0_VBUS (io), 22 USB0_ID (in), 24 USB0_RREF, 26 TDI (in), 27 TCK/SWDCLK (in), 28 DBGEN (in), 29 ~{TRST} (in), 30 TMS/SWDIO (in), 31 TDO/SWO (out), 89 NC, 90 NC, 92 I2C0_SCL (io), 93 I2C0_SDA (io), 125 RTCX1 (in), 126 RTCX2 (out), 128 ~{RESET} (in), 129 RTC_ALARM (out), 130 WAKEUP0 (in), 136 ADC0_7/ADC1_7 (in), 138 ADC0_4/ADC1_4 (in), 139 ADC0_3/ADC1_3 (in), 142 ADC0_6/ADC1_6 (in), 143 ADC0_2/ADC1_2 (in), 144 ADC0_5/ADC1_5 (in)
part E pins: 4 VSSIO (power), 5 VDDIO (power), 16 USB0_VDDA3V3_DRIVER (power), 17 USB0_VDDA3V3 (power), 19 USB0_VSSA_TERM (power), 23 USB0_VSSA_REF (power), 25 VDDREG (power), 36 VDDIO (power), 40 VSSIO (power), 41 VDDIO (power), 59 VDDREG (power), 71 VDDIO (power), 76 VSSIO (power), 77 VDDIO (power), 94 VDDREG (power), 107 VDDIO (power), 109 VSSIO (power), 111 VDDIO (power), 127 VBAT (power), 131 VDDREG (power), 135 VSSA (power), 137 VDDA (power), 141 VDDIO (power)